# Altium integrated library TI Power Management Special Function.IntLib: 97 symbols (part 2 of 7)
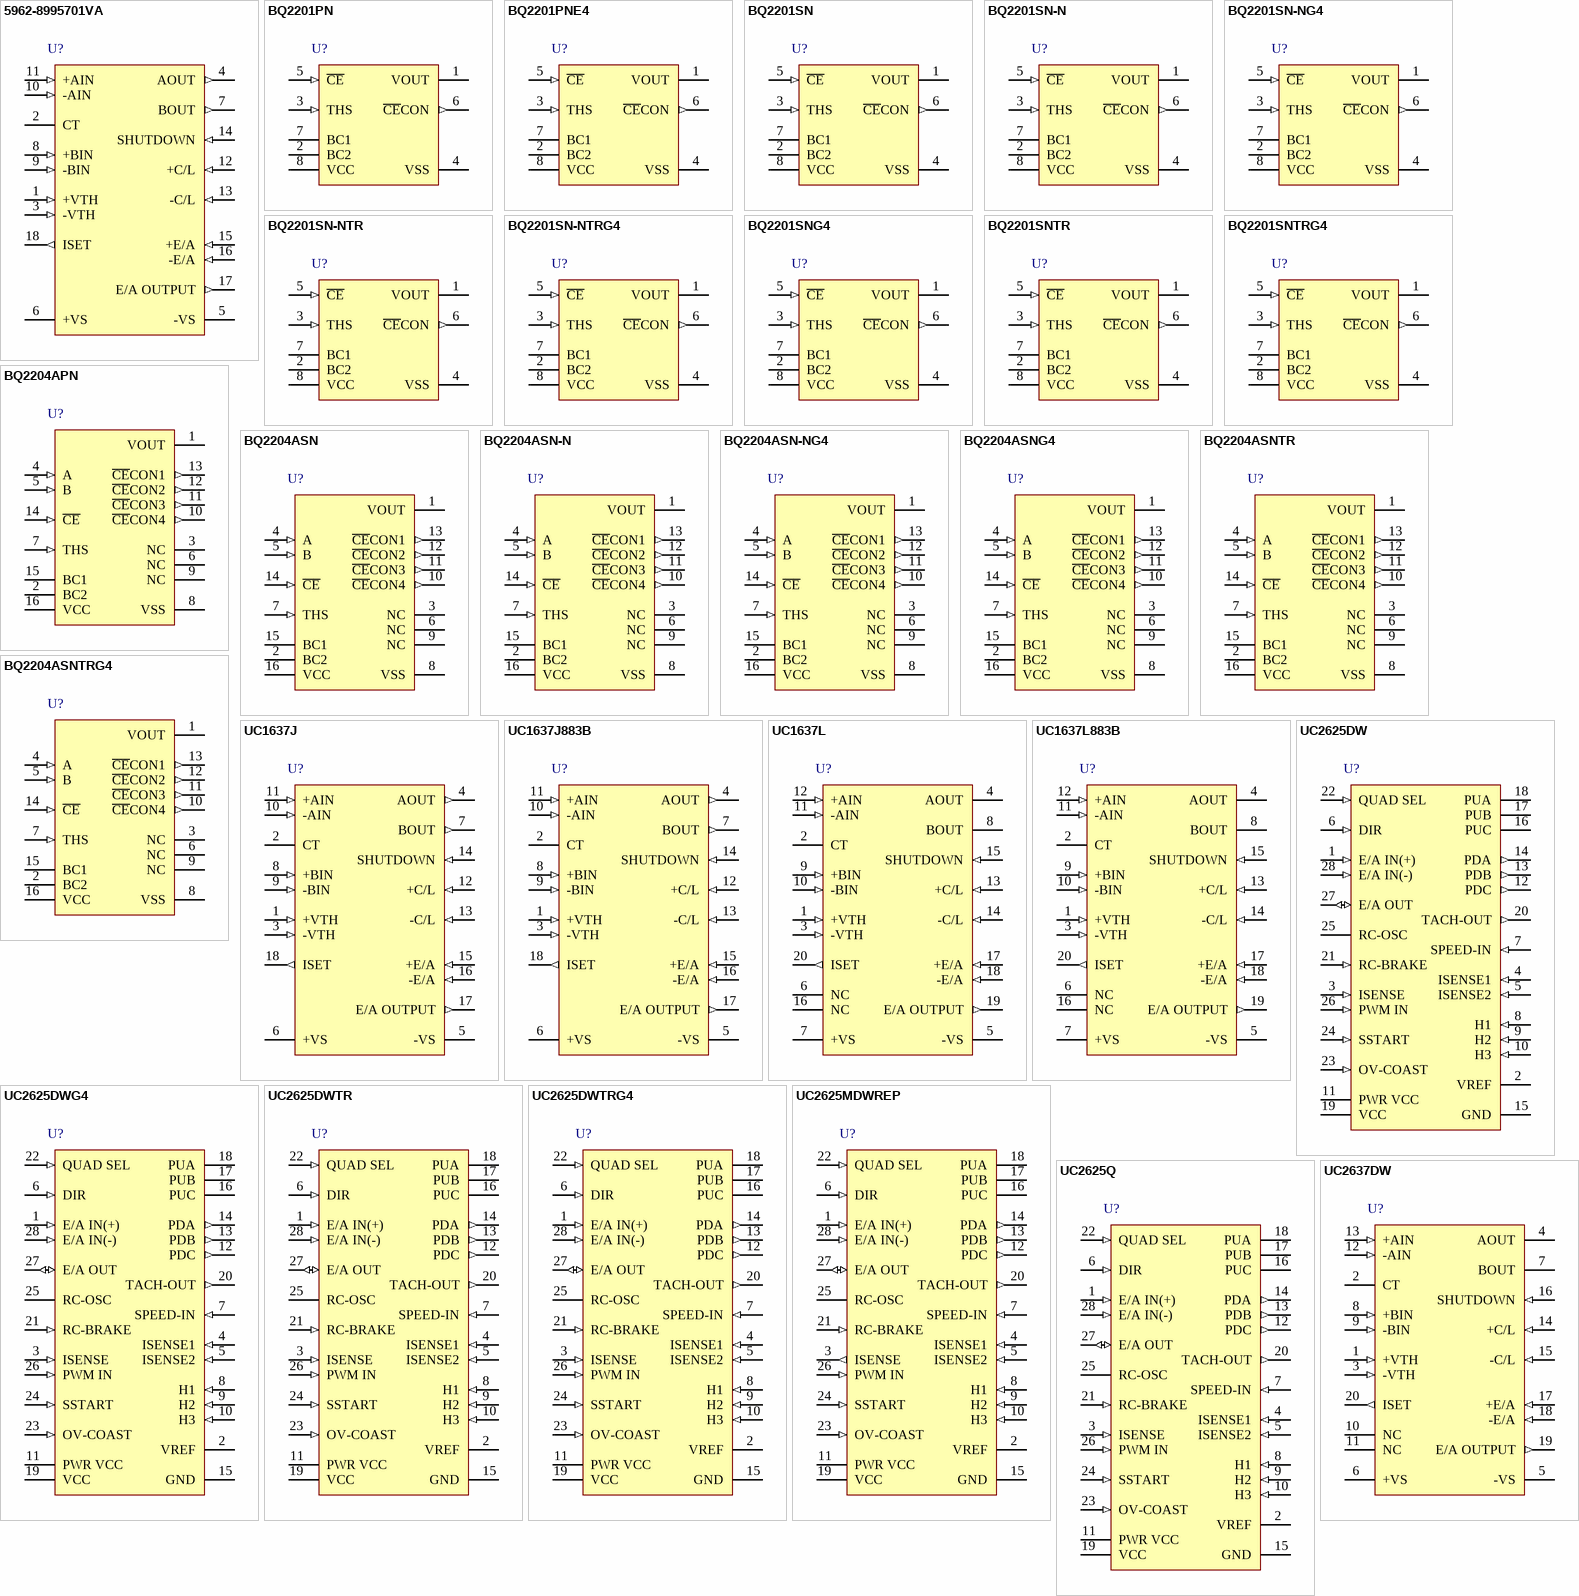
[diagram p4: symbols 5962-8995701VA to UC2637DW]

## UC2625DWTR
designator U?
Brushless DC Motor Controller, 18 V Operating Supply, -40 to 85 degC, 28-pin SOIC (DW), Green (RoHS & no Sb/Br); Manufacturer: Texas Instruments; PartNumber: UC2625DWTR; Brushless DC Motor Control: TRUE; Operating Supply Current(mA): 14.5; Operating Supply(Max)(V): 18; Operating Supply(Min)(V): 10; Peak Output Current(A): 0.5; SubFamily: Motion/Motor Control; DatasheetVersion: SLUS353B; PackageVersion: revG, Jan-2011; PackageReference: DW28; PackageDescription: 28-Pin Plastic Small Outline Integrated Circuit, 17.9 x 7.5 mm, Pitch 1.27 mm Pitch; Supplier 1: Digi-Key; Supplier Part Number 1: UC2625DWTR-ND; Supplier 2: Newark; Supplier Part Number 2: 77C2824; Supplier 3: Mouser; Supplier Part Number 3: 595-UC2625DWTR; Current-Limited: TRUE; Diff Curr Sense Amp: TRUE; Eco-Plan: Green (RoHS & no Sb/Br); Switching Control: TRUE; Tachometer: TRUE; Mounting Technology: Surface Mount; Code_JEDEC: MS-013-AE; ComponentLink1Description: Datasheet; ComponentLink1URL: http://www.ti.com/general/docs/lit/getliterature.tsp?genericPartNumber=UC2625&fileType=pdf
footprint DW28_N (SOIC, 28-Leads, Body 17.9x7.5mm, Pitch 1.27mm, IPC Medium Density)
footprint DW28_L (SOIC, 28-Leads, Body 17.9x7.5mm, Pitch 1.27mm, IPC High Density)
footprint DW28_M (SOIC, 28-Leads, Body 17.9x7.5mm, Pitch 1.27mm, IPC Low Density)
pins: 1 E/A IN(+) (in) "E/A IN(+) and E/A IN(-) are not internally committed to allow for a wide variety of uses. They can be connected to the ISENSE, to TACH-OUT through a filter, to an external command voltage, to a D/A converter for computer (See Datasheet)", 2 VREF (power) "This pin provides regulated 5 V for driving Hall-effect devices and speed control circuitry. VREF reachs 5 V before VCC enables, ensuring that Hall-effect devices powered from VREF becomes active before the UC3625 drives any (See Datasheet)", 3 ISENSE (in) "The current sense amplifier has a fixed gain of approximately two. It also has a built-in level shift of approximately 2.5 V. The signal appearing on ISENSE is: ISENSE = 2.5 V + (2 x ABS ( ISENSE1 - ISENSE2) ) ISENSE1 and (See Datasheet)", 4 ISENSE1 (in) "The current sense amplifier has a fixed gain of approximately two. It also has a built-in level shift of approximately 2.5 V. The signal appearing on ISENSE is: ISENSE = 2.5 V + (2 x ABS ( ISENSE1 - ISENSE2) ) ISENSE1 and (See Datasheet)", 5 ISENSE2 (in) "The current sense amplifier has a fixed gain of approximately two. It also has a built-in level shift of approximately 2.5 V. The signal appearing on ISENSE is: ISENSE = 2.5 V + (2 x ABS ( ISENSE1 - ISENSE2) ) ISENSE1 and (See Datasheet)", 6 DIR (in) "The position decoder logic translates the Hall signals and the DIR signal to the correct driver signals (PUs and PDs). To prevent output stage damage,the signal on DIR is first loaded into a direction latch, then shifted (See Datasheet)", 7 SPEED-IN (in) "The position decoder logic translates the Hall signals and the DIR signal to the correct driver signals (PUs and PDs). To prevent output stage damage,the signal on DIR is first loaded into a direction latch, then shifted (See Datasheet)", 8 H1 (in) "The three shaft position sensor inputs consist of hysteresis comparators with input pull-up resistors. Logic thresholds meet TTL specifications and can be driven by 5-V CMOS, 12-V CMOS, NMOS, or open-collectors. Connect (See Datasheet)", 9 H2 (in) "The three shaft position sensor inputs consist of hysteresis comparators with input pull-up resistors. Logic thresholds meet TTL specifications and can be driven by 5-V CMOS, 12-V CMOS, NMOS, or open-collectors. Connect (See Datasheet)", 10 H3 (in) "The three shaft position sensor inputs consist of hysteresis comparators with input pull-up resistors. Logic thresholds meet TTL specifications and can be driven by 5-V CMOS, 12-V CMOS, NMOS, or open-collectors. Connect (See Datasheet)", 11 PWR VCC (power) "This supply pin carries the current sourced by the PD outputs. When connecting PD outputs directly to the bases of power Darlingtons, the PWR VCC pin can be current limited with a resistor. Darlington outputs can also be (See Datasheet)", 12 PDC (out) "These outputs can drive the gates of N-channel power MOSFETs directly or they can drive the bases of power Darlingtons if some form of current limiting is used. They are meant to drive low-side power devices in high-current (See Datasheet)", 13 PDB (out) "These outputs can drive the gates of N-channel power MOSFETs directly or they can drive the bases of power Darlingtons if some form of current limiting is used. They are meant to drive low-side power devices in high-current (See Datasheet)", 14 PDA (out) "These outputs can drive the gates of N-channel power MOSFETs directly or they can drive the bases of power Darlingtons if some form of current limiting is used. They are meant to drive low-side power devices in high-current (See Datasheet)", 15 GND (power) "All thresholds and outputs are referred to the GND pin except for the PD and PU outputs.", 16 PUC (oc) "These outputs are open-collector, high-voltage drivers that are meant to drive high-side power devices in high-current output stages.These are active low outputs, meaning that these outputs pull low to command a high-side (See Datasheet)", 17 PUB (oc) "These outputs are open-collector, high-voltage drivers that are meant to drive high-side power devices in high-current output stages.These are active low outputs, meaning that these outputs pull low to command a high-side (See Datasheet)", 18 PUA (oc) "These outputs are open-collector, high-voltage drivers that are meant to drive high-side power devices in high-current output stages.These are active low outputs, meaning that these outputs pull low to command a high-side (See Datasheet)", 19 VCC (power) "This device operates with supplies between 10 V and 18 V. Under-voltage lockout keeps all outputs off below 7.5 V, insuring that the output transistors never turn on until full drive capability is available. Bypass VCC to (See Datasheet)", 20 TACH-OUT (out) "Any change in the H1, H2, or H3 inputs loads data from these inputs into the position sensor latches. At the same time data is loaded, a fixed-width 5-V pulse is triggered on TACH-OUT. The average value of the voltage on (See Datasheet)", 21 RC-BRAKE (in) "Each time the TACH-OUT pulses, the capacitor tied to RC-BRAKE discharges from approximately 3.33 V down to 1.67 V through a resistor. The tachometer pulse width is approximately T = 0.67 RT CT, where RT and CT are a resistor (See Datasheet)", 22 QUAD SEL (in) "The device can chop power devices in either of two modes, referred to as "two-quadrant" (Quad Sellow) and "four quadrant" (Quad Sel high). When two-quadrant chopping, the pull-down power devices are chopped by the output of (See Datasheet)", 23 OV-COAST (in) "This input can be used as an over-voltage shut-down input, as a coast input, or both. This input can be driven by TTL, 5-V CMOS, or 12-V CMOS.", 24 SSTART (in) "Any time that VCC drops below threshold or the sensed current exceeds the over-current threshold, the soft-start latch is set. When set, it turns on a transistor that pulls down on SSTART. Normally, a capacitor is connected (See Datasheet)", 25 RC-OSC "The UC3625 can regulate motor current using fixed-frequency pulse width modulation (PWM). The RC-OSC pin sets oscillator frequency by means of timing resistor ROSC from the RC-OSC pin to VREF and capacitor COSC from RC-OSC (See Datasheet)", 26 PWM IN (in) "E/A IN(+) and E/A IN(-) are not internally committed to allow for a wide variety of uses. They can be connected to the ISENSE, to TACH-OUT through a filter, to an external command voltage, to a D/A converter for computer (See Datasheet)", 27 E/A OUT (io) "E/A IN(+) and E/A IN(-) are not internally committed to allow for a wide variety of uses. They can be connected to the ISENSE, to TACH-OUT through a filter, to an external command voltage, to a D/A converter for computer (See Datasheet)", 28 E/A IN(-) (in) "E/A IN(+) and E/A IN(-) are not internally committed to allow for a wide variety of uses. They can be connected to the ISENSE, to TACH-OUT through a filter, to an external command voltage, to a D/A converter for computer (See Datasheet)"

## UC2625DWTRG4
designator U?
Brushless DC Motor Controller, 18 V Operating Supply, -40 to 85 degC, 28-pin SOIC (DW), Green (RoHS & no Sb/Br); Manufacturer: Texas Instruments; PartNumber: UC2625DWTRG4; Brushless DC Motor Control: TRUE; Operating Supply Current(mA): 14.5; Operating Supply(Max)(V): 18; Operating Supply(Min)(V): 10; Peak Output Current(A): 0.5; SubFamily: Motion/Motor Control; DatasheetVersion: SLUS353B; PackageVersion: revG, Jan-2011; PackageReference: DW28; PackageDescription: 28-Pin Plastic Small Outline Integrated Circuit, 17.9 x 7.5 mm, Pitch 1.27 mm Pitch; Supplier 1: Digi-Key; Supplier Part Number 1: UC2625DWTRG4-ND; Supplier 2: Newark; Supplier Part Number 2: 54K2252; Supplier 3: Mouser; Supplier Part Number 3: 595-UC2625DWTRG4; Current-Limited: TRUE; Diff Curr Sense Amp: TRUE; Eco-Plan: Green (RoHS & no Sb/Br); Switching Control: TRUE; Tachometer: TRUE; Mounting Technology: Surface Mount; Code_JEDEC: MS-013-AE; ComponentLink1Description: Datasheet; ComponentLink1URL: http://www.ti.com/general/docs/lit/getliterature.tsp?genericPartNumber=UC2625&fileType=pdf
footprint DW28_N (SOIC, 28-Leads, Body 17.9x7.5mm, Pitch 1.27mm, IPC Medium Density)
footprint DW28_L (SOIC, 28-Leads, Body 17.9x7.5mm, Pitch 1.27mm, IPC High Density)
footprint DW28_M (SOIC, 28-Leads, Body 17.9x7.5mm, Pitch 1.27mm, IPC Low Density)
pins: 1 E/A IN(+) (in) "E/A IN(+) and E/A IN(-) are not internally committed to allow for a wide variety of uses. They can be connected to the ISENSE, to TACH-OUT through a filter, to an external command voltage, to a D/A converter for computer (See Datasheet)", 2 VREF (power) "This pin provides regulated 5 V for driving Hall-effect devices and speed control circuitry. VREF reachs 5 V before VCC enables, ensuring that Hall-effect devices powered from VREF becomes active before the UC3625 drives any (See Datasheet)", 3 ISENSE (in) "The current sense amplifier has a fixed gain of approximately two. It also has a built-in level shift of approximately 2.5 V. The signal appearing on ISENSE is: ISENSE = 2.5 V + (2 x ABS ( ISENSE1 - ISENSE2) ) ISENSE1 and (See Datasheet)", 4 ISENSE1 (in) "The current sense amplifier has a fixed gain of approximately two. It also has a built-in level shift of approximately 2.5 V. The signal appearing on ISENSE is: ISENSE = 2.5 V + (2 x ABS ( ISENSE1 - ISENSE2) ) ISENSE1 and (See Datasheet)", 5 ISENSE2 (in) "The current sense amplifier has a fixed gain of approximately two. It also has a built-in level shift of approximately 2.5 V. The signal appearing on ISENSE is: ISENSE = 2.5 V + (2 x ABS ( ISENSE1 - ISENSE2) ) ISENSE1 and (See Datasheet)", 6 DIR (in) "The position decoder logic translates the Hall signals and the DIR signal to the correct driver signals (PUs and PDs). To prevent output stage damage,the signal on DIR is first loaded into a direction latch, then shifted (See Datasheet)", 7 SPEED-IN (in) "The position decoder logic translates the Hall signals and the DIR signal to the correct driver signals (PUs and PDs). To prevent output stage damage,the signal on DIR is first loaded into a direction latch, then shifted (See Datasheet)", 8 H1 (in) "The three shaft position sensor inputs consist of hysteresis comparators with input pull-up resistors. Logic thresholds meet TTL specifications and can be driven by 5-V CMOS, 12-V CMOS, NMOS, or open-collectors. Connect (See Datasheet)", 9 H2 (in) "The three shaft position sensor inputs consist of hysteresis comparators with input pull-up resistors. Logic thresholds meet TTL specifications and can be driven by 5-V CMOS, 12-V CMOS, NMOS, or open-collectors. Connect (See Datasheet)", 10 H3 (in) "The three shaft position sensor inputs consist of hysteresis comparators with input pull-up resistors. Logic thresholds meet TTL specifications and can be driven by 5-V CMOS, 12-V CMOS, NMOS, or open-collectors. Connect (See Datasheet)", 11 PWR VCC (power) "This supply pin carries the current sourced by the PD outputs. When connecting PD outputs directly to the bases of power Darlingtons, the PWR VCC pin can be current limited with a resistor. Darlington outputs can also be (See Datasheet)", 12 PDC (out) "These outputs can drive the gates of N-channel power MOSFETs directly or they can drive the bases of power Darlingtons if some form of current limiting is used. They are meant to drive low-side power devices in high-current (See Datasheet)", 13 PDB (out) "These outputs can drive the gates of N-channel power MOSFETs directly or they can drive the bases of power Darlingtons if some form of current limiting is used. They are meant to drive low-side power devices in high-current (See Datasheet)", 14 PDA (out) "These outputs can drive the gates of N-channel power MOSFETs directly or they can drive the bases of power Darlingtons if some form of current limiting is used. They are meant to drive low-side power devices in high-current (See Datasheet)", 15 GND (power) "All thresholds and outputs are referred to the GND pin except for the PD and PU outputs.", 16 PUC (oc) "These outputs are open-collector, high-voltage drivers that are meant to drive high-side power devices in high-current output stages.These are active low outputs, meaning that these outputs pull low to command a high-side (See Datasheet)", 17 PUB (oc) "These outputs are open-collector, high-voltage drivers that are meant to drive high-side power devices in high-current output stages.These are active low outputs, meaning that these outputs pull low to command a high-side (See Datasheet)", 18 PUA (oc) "These outputs are open-collector, high-voltage drivers that are meant to drive high-side power devices in high-current output stages.These are active low outputs, meaning that these outputs pull low to command a high-side (See Datasheet)", 19 VCC (power) "This device operates with supplies between 10 V and 18 V. Under-voltage lockout keeps all outputs off below 7.5 V, insuring that the output transistors never turn on until full drive capability is available. Bypass VCC to (See Datasheet)", 20 TACH-OUT (out) "Any change in the H1, H2, or H3 inputs loads data from these inputs into the position sensor latches. At the same time data is loaded, a fixed-width 5-V pulse is triggered on TACH-OUT. The average value of the voltage on (See Datasheet)", 21 RC-BRAKE (in) "Each time the TACH-OUT pulses, the capacitor tied to RC-BRAKE discharges from approximately 3.33 V down to 1.67 V through a resistor. The tachometer pulse width is approximately T = 0.67 RT CT, where RT and CT are a resistor (See Datasheet)", 22 QUAD SEL (in) "The device can chop power devices in either of two modes, referred to as "two-quadrant" (Quad Sellow) and "four quadrant" (Quad Sel high). When two-quadrant chopping, the pull-down power devices are chopped by the output of (See Datasheet)", 23 OV-COAST (in) "This input can be used as an over-voltage shut-down input, as a coast input, or both. This input can be driven by TTL, 5-V CMOS, or 12-V CMOS.", 24 SSTART (in) "Any time that VCC drops below threshold or the sensed current exceeds the over-current threshold, the soft-start latch is set. When set, it turns on a transistor that pulls down on SSTART. Normally, a capacitor is connected (See Datasheet)", 25 RC-OSC "The UC3625 can regulate motor current using fixed-frequency pulse width modulation (PWM). The RC-OSC pin sets oscillator frequency by means of timing resistor ROSC from the RC-OSC pin to VREF and capacitor COSC from RC-OSC (See Datasheet)", 26 PWM IN (in) "E/A IN(+) and E/A IN(-) are not internally committed to allow for a wide variety of uses. They can be connected to the ISENSE, to TACH-OUT through a filter, to an external command voltage, to a D/A converter for computer (See Datasheet)", 27 E/A OUT (io) "E/A IN(+) and E/A IN(-) are not internally committed to allow for a wide variety of uses. They can be connected to the ISENSE, to TACH-OUT through a filter, to an external command voltage, to a D/A converter for computer (See Datasheet)", 28 E/A IN(-) (in) "E/A IN(+) and E/A IN(-) are not internally committed to allow for a wide variety of uses. They can be connected to the ISENSE, to TACH-OUT through a filter, to an external command voltage, to a D/A converter for computer (See Datasheet)"

## UC2625MDWREP
designator U?
Enhanced Product Brushless DC Motor Controller, -55 to 125 degC, 28-pin SOIC (DW), Green (RoHS & no Sb/Br); Manufacturer: Texas Instruments; PartNumber: UC2625MDWREP; SubFamily: Motion/Motor Control; DatasheetVersion: SLUS802; PackageVersion: revG, Jan-2011; PackageReference: DW28; PackageDescription: 28-Pin Plastic Small Outline Integrated Circuit, 17.9 x 7.5 mm, Pitch 1.27 mm Pitch; Supplier 1: Digi-Key; Supplier Part Number 1: 296-23381-2-ND; Supplier 2: Digi-Key; Supplier Part Number 2: 296-23381-1-ND; Supplier 3: Digi-Key; Supplier Part Number 3: 296-23381-6-ND; Supplier 4: Newark; Supplier Part Number 4: 79R8633; Supplier 5: Mouser; Supplier Part Number 5: 595-UC2625MDWREP; Eco-Plan: Green (RoHS & no Sb/Br); Mounting Technology: Surface Mount; Code_JEDEC: MS-013-AE; ComponentLink1Description: Datasheet; ComponentLink1URL: http://www.ti.com/general/docs/lit/getliterature.tsp?genericPartNumber=UC2625-EP&fileType=pdf
footprint DW28_N (SOIC, 28-Leads, Body 17.9x7.5mm, Pitch 1.27mm, IPC Medium Density)
footprint DW28_L (SOIC, 28-Leads, Body 17.9x7.5mm, Pitch 1.27mm, IPC High Density)
footprint DW28_M (SOIC, 28-Leads, Body 17.9x7.5mm, Pitch 1.27mm, IPC Low Density)
pins: 1 E/A IN(+) (in) "E/A IN(+) and E/A IN(-) are not internally committed to allow for a wide variety of uses. They can be connected to the ISENSE, to TACH-OUT through a filter, to an external command voltage, to a D/A converter for computer (See Datasheet)", 2 VREF (power) "This pin provides regulated 5 V for driving Hall-effect devices and speed control circuitry. VREF reachs 5 V before VCC enables, ensuring that Hall-effect devices  powered from VREF becomes active before the UC3625 drives (See Datasheet)", 3 ISENSE (out) "The current sense amplifier has a fixed gain of approximately two. It also has a built-in level shift of approximately 2.5 V. The signal appearing on ISENSE is: ISENSE = 2.5 V + (2 x ABS ( ISENSE1 - ISENSE2) ) ISENSE1 and (See Datasheet)", 4 ISENSE1 (in) "The current sense amplifier has a fixed gain of approximately two. It also has a built-in level shift of approximately 2.5 V. The signal appearing on ISENSE is: ISENSE = 2.5 V + (2 x ABS ( ISENSE1 - ISENSE2) ) ISENSE1 and (See Datasheet)", 5 ISENSE2 (in) "The current sense amplifier has a fixed gain of approximately two. It also has a built-in level shift of approximately 2.5 V. The signal appearing on ISENSE is: ISENSE = 2.5 V + (2 x ABS ( ISENSE1 - ISENSE2) ) ISENSE1 and (See Datasheet)", 6 DIR (in) "The position decoder logic translates the Hall signals and the DIR signal to the correct driver signals (PUs and PDs). To prevent output stage damage,the signal on DIR is first loaded into a direction latch, then shifted (See Datasheet)", 7 SPEED-IN (in) "The position decoder logic translates the Hall signals and the DIR signal to the correct driver signals (PUs and PDs). To prevent output stage damage,the signal on DIR is first loaded into a direction latch, then shifted (See Datasheet)", 8 H1 (in) "The three shaft position sensor inputs consist of hysteresis comparators with input pull-up resistors. Logic thresholds meet TTL specifications and can be driven by 5-V CMOS, 12-V CMOS, NMOS, or open-collectors. Connect (See Datasheet)", 9 H2 (in) "The three shaft position sensor inputs consist of hysteresis comparators with input pull-up resistors. Logic thresholds meet TTL specifications and can be driven by 5-V CMOS, 12-V CMOS, NMOS, or open-collectors. Connect (See Datasheet)", 10 H3 (in) "The three shaft position sensor inputs consist of hysteresis comparators with input pull-up resistors. Logic thresholds meet TTL specifications and can be driven by 5-V CMOS, 12-V CMOS, NMOS, or open-collectors. Connect (See Datasheet)", 11 PWR VCC (power) "This supply pin carries the current sourced by the PD outputs. When connecting PD outputs directly to the bases of power Darlingtons, the PWR VCC pin can be current limited with a resistor. Darlington outputs can also be (See Datasheet)", 12 PDC (out) "These outputs can drive the gates of N-channel power MOSFETs directly or they can drive the bases of power Darlingtons if some form of current limiting is used. They are meant to drive low-side power devices in high-current (See Datasheet)", 13 PDB (out) "These outputs can drive the gates of N-channel power MOSFETs directly or they can drive the bases of power Darlingtons if some form of current limiting is used. They are meant to drive low-side power devices in high-current (See Datasheet)", 14 PDA (out) "These outputs can drive the gates of N-channel power MOSFETs directly or they can drive the bases of power Darlingtons if some form of current limiting is used. They are meant to drive low-side power devices in high-current (See Datasheet)", 15 GND (power) "All thresholds and outputs are referred to the GND pin except for the PD and PU outputs.", 16 PUC (oc) "These outputs are open-collector, high-voltage drivers that are meant to drive high-side power devices in high-current output stages.These are active low outputs, meaning that these outputs pull low to command a high-side (See Datasheet)", 17 PUB (oc) "These outputs are open-collector, high-voltage drivers that are meant to drive high-side power devices in high-current output stages.These are active low outputs, meaning that these outputs pull low to command a high-side (See Datasheet)", 18 PUA (oc) "These outputs are open-collector, high-voltage drivers that are meant to drive high-side power devices in high-current output stages.These are active low outputs, meaning that these outputs pull low to command a high-side (See Datasheet)", 19 VCC (power) "This device operates with supplies between 10 V and 18 V. Under-voltage lockout keeps all outputs off below 7.5 V, insuring that the output transistors never turn on until full drive capability is available. Bypass VCC to (See Datasheet)", 20 TACH-OUT (out) "Any change in the H1, H2, or H3 inputs loads data from these inputs into the position sensor latches. At the same time data is loaded, a fixed-width 5-V pulse is triggered on TACH-OUT. The average value of the voltage on (See Datasheet)", 21 RC-BRAKE (in) "Each time the TACH-OUT pulses, the capacitor tied to RC-BRAKE discharges from approximately 3.33 V down to 1.67 V through a resistor. The tachometer pulse width is approximately T = 0.67 RT CT, where RT and CT are a resistor (See Datasheet)", 22 QUAD SEL (in) "The device can chop power devices in either of two modes, referred to as "two-quadrant" (Quad Sellow) and "four quadrant" (Quad Sel high). When two-quadrant chopping, the pull-down power devices are chopped by the output of (See Datasheet)", 23 OV-COAST (in) "This input can be used as an over-voltage shut-down input, as a coast input, or both. This input can be driven by TTL, 5-V CMOS, or 12-V CMOS.", 24 SSTART (in) "Any time that VCC drops below threshold or the sensed current exceeds the over-current threshold, the soft-start latch is set. When set, it turns on a transistor that pulls down on SSTART. Normally, a capacitor is connected (See Datasheet)", 25 RC-OSC "The UC3625 can regulate motor current using fixed-frequency pulse width modulation (PWM). The RC-OSC pin sets oscillator frequency by means of timing resistor ROSC from the RC-OSC pin to VREF and capacitor COSC from RC-OSC (See Datasheet)", 26 PWM IN (in) "E/A IN(+) and E/A IN(-) are not internally committed to allow for a wide variety of uses. They can be connected to the ISENSE, to TACH-OUT through a filter, to an external command voltage, to a D/A converter for computer (See Datasheet)", 27 E/A OUT (io) "E/A IN(+) and E/A IN(-) are not internally committed to allow for a wide variety of uses. They can be connected to the ISENSE, to TACH-OUT through a filter, to an external command voltage, to a D/A converter for computer (See Datasheet)", 28 E/A IN(-) (in) "E/A IN(+) and E/A IN(-) are not internally committed to allow for a wide variety of uses. They can be connected to the ISENSE, to TACH-OUT through a filter, to an external command voltage, to a D/A converter for computer (See Datasheet)"

## UC2625Q
designator U?
Brushless DC Motor Controller, 18 V Operating Supply, -40 to 85 degC, 28-pin PLCC (FN), Green (RoHS & no Sb/Br); Manufacturer: Texas Instruments; PartNumber: UC2625Q; Brushless DC Motor Control: TRUE; Operating Supply Current(mA): 14.5; Operating Supply(Max)(V): 18; Operating Supply(Min)(V): 10; Peak Output Current(A): 0.5; SubFamily: Motion/Motor Control; DatasheetVersion: SLUS353B; PackageVersion: revB, Mar-1995; PackageReference: FN28; PackageDescription: 28-Pin Plastic J-Leaded Chip Carrier, 1.27 mm Pitch; Supplier 1: Digi-Key; Supplier Part Number 1: UC2625Q-ND; Supplier 2: Newark; Supplier Part Number 2: 01C2080; Supplier 3: Mouser; Supplier Part Number 3: 595-UC2625Q; Current-Limited: TRUE; Diff Curr Sense Amp: TRUE; Eco-Plan: Green (RoHS & no Sb/Br); Switching Control: TRUE; Tachometer: TRUE; Mounting Technology: Surface Mount; Code_JEDEC: MS-018; ComponentLink1Description: Datasheet; ComponentLink1URL: http://www.ti.com/general/docs/lit/getliterature.tsp?genericPartNumber=UC2625&fileType=pdf
footprint FN28_N (Leaded Chip Carrier, 28-Leads, Body 11.5x11.5mm, Pitch 1.27mm, IPC Medium Density)
footprint FN28_L (Leaded Chip Carrier, 28-Leads, Body 11.5x11.5mm, Pitch 1.27mm, IPC High Density)
footprint FN28_M (Leaded Chip Carrier, 28-Leads, Body 11.5x11.5mm, Pitch 1.27mm, IPC Low Density)
pins: 1 E/A IN(+) (in) "E/A IN(+) and E/A IN(-) are not internally committed to allow for a wide variety of uses. They can be connected to the ISENSE, to TACH-OUT through a filter, to an external command voltage, to a D/A converter for computer (See Datasheet)", 2 VREF (power) "This pin provides regulated 5 V for driving Hall-effect devices and speed control circuitry. VREF reachs 5 V before VCC enables, ensuring that Hall-effect devices powered from VREF becomes active before the UC3625 drives any (See Datasheet)", 3 ISENSE (in) "The current sense amplifier has a fixed gain of approximately two. It also has a built-in level shift of approximately 2.5 V. The signal appearing on ISENSE is: ISENSE = 2.5 V + (2 x ABS ( ISENSE1 - ISENSE2) ) ISENSE1 and (See Datasheet)", 4 ISENSE1 (in) "The current sense amplifier has a fixed gain of approximately two. It also has a built-in level shift of approximately 2.5 V. The signal appearing on ISENSE is: ISENSE = 2.5 V + (2 x ABS ( ISENSE1 - ISENSE2) ) ISENSE1 and (See Datasheet)", 5 ISENSE2 (in) "The current sense amplifier has a fixed gain of approximately two. It also has a built-in level shift of approximately 2.5 V. The signal appearing on ISENSE is: ISENSE = 2.5 V + (2 x ABS ( ISENSE1 - ISENSE2) ) ISENSE1 and (See Datasheet)", 6 DIR (in) "The position decoder logic translates the Hall signals and the DIR signal to the correct driver signals (PUs and PDs). To prevent output stage damage,the signal on DIR is first loaded into a direction latch, then shifted (See Datasheet)", 7 SPEED-IN (in) "The position decoder logic translates the Hall signals and the DIR signal to the correct driver signals (PUs and PDs). To prevent output stage damage,the signal on DIR is first loaded into a direction latch, then shifted (See Datasheet)", 8 H1 (in) "The three shaft position sensor inputs consist of hysteresis comparators with input pull-up resistors. Logic thresholds meet TTL specifications and can be driven by 5-V CMOS, 12-V CMOS, NMOS, or open-collectors. Connect (See Datasheet)", 9 H2 (in) "The three shaft position sensor inputs consist of hysteresis comparators with input pull-up resistors. Logic thresholds meet TTL specifications and can be driven by 5-V CMOS, 12-V CMOS, NMOS, or open-collectors. Connect (See Datasheet)", 10 H3 (in) "The three shaft position sensor inputs consist of hysteresis comparators with input pull-up resistors. Logic thresholds meet TTL specifications and can be driven by 5-V CMOS, 12-V CMOS, NMOS, or open-collectors. Connect (See Datasheet)", 11 PWR VCC (power) "This supply pin carries the current sourced by the PD outputs. When connecting PD outputs directly to the bases of power Darlingtons, the PWR VCC pin can be current limited with a resistor. Darlington outputs can also be (See Datasheet)", 12 PDC (out) "These outputs can drive the gates of N-channel power MOSFETs directly or they can drive the bases of power Darlingtons if some form of current limiting is used. They are meant to drive low-side power devices in high-current (See Datasheet)", 13 PDB (out) "These outputs can drive the gates of N-channel power MOSFETs directly or they can drive the bases of power Darlingtons if some form of current limiting is used. They are meant to drive low-side power devices in high-current (See Datasheet)", 14 PDA (out) "These outputs can drive the gates of N-channel power MOSFETs directly or they can drive the bases of power Darlingtons if some form of current limiting is used. They are meant to drive low-side power devices in high-current (See Datasheet)", 15 GND (power) "All thresholds and outputs are referred to the GND pin except for the PD and PU outputs.", 16 PUC (oc) "These outputs are open-collector, high-voltage drivers that are meant to drive high-side power devices in high-current output stages.These are active low outputs, meaning that these outputs pull low to command a high-side (See Datasheet)", 17 PUB (oc) "These outputs are open-collector, high-voltage drivers that are meant to drive high-side power devices in high-current output stages.These are active low outputs, meaning that these outputs pull low to command a high-side (See Datasheet)", 18 PUA (oc) "These outputs are open-collector, high-voltage drivers that are meant to drive high-side power devices in high-current output stages.These are active low outputs, meaning that these outputs pull low to command a high-side (See Datasheet)", 19 VCC (power) "This device operates with supplies between 10 V and 18 V. Under-voltage lockout keeps all outputs off below 7.5 V, insuring that the output transistors never turn on until full drive capability is available. Bypass VCC to (See Datasheet)", 20 TACH-OUT (out) "Any change in the H1, H2, or H3 inputs loads data from these inputs into the position sensor latches. At the same time data is loaded, a fixed-width 5-V pulse is triggered on TACH-OUT. The average value of the voltage on (See Datasheet)", 21 RC-BRAKE (in) "Each time the TACH-OUT pulses, the capacitor tied to RC-BRAKE discharges from approximately 3.33 V down to 1.67 V through a resistor. The tachometer pulse width is approximately T = 0.67 RT CT, where RT and CT are a resistor (See Datasheet)", 22 QUAD SEL (in) "The device can chop power devices in either of two modes, referred to as "two-quadrant" (Quad Sellow) and "four quadrant" (Quad Sel high). When two-quadrant chopping, the pull-down power devices are chopped by the output of (See Datasheet)", 23 OV-COAST (in) "This input can be used as an over-voltage shut-down input, as a coast input, or both. This input can be driven by TTL, 5-V CMOS, or 12-V CMOS.", 24 SSTART (in) "Any time that VCC drops below threshold or the sensed current exceeds the over-current threshold, the soft-start latch is set. When set, it turns on a transistor that pulls down on SSTART. Normally, a capacitor is connected (See Datasheet)", 25 RC-OSC "The UC3625 can regulate motor current using fixed-frequency pulse width modulation (PWM). The RC-OSC pin sets oscillator frequency by means of timing resistor ROSC from the RC-OSC pin to VREF and capacitor COSC from RC-OSC (See Datasheet)", 26 PWM IN (in) "E/A IN(+) and E/A IN(-) are not internally committed to allow for a wide variety of uses. They can be connected to the ISENSE, to TACH-OUT through a filter, to an external command voltage, to a D/A converter for computer (See Datasheet)", 27 E/A OUT (io) "E/A IN(+) and E/A IN(-) are not internally committed to allow for a wide variety of uses. They can be connected to the ISENSE, to TACH-OUT through a filter, to an external command voltage, to a D/A converter for computer (See Datasheet)", 28 E/A IN(-) (in) "E/A IN(+) and E/A IN(-) are not internally committed to allow for a wide variety of uses. They can be connected to the ISENSE, to TACH-OUT through a filter, to an external command voltage, to a D/A converter for computer (See Datasheet)"

## UC2637DW
designator U?
Switched Mode Controller for DC Motor Drive, 36 V Operating Supply, -25 to 85 degC, 20-pin SOIC (DW), Green (RoHS & no Sb/Br); Manufacturer: Texas Instruments; PartNumber: UC2637DW; Current-Limited: TRUE; Operating Supply Current(mA): 8.5; Operating Supply(Max)(V): 36; Operating Supply(Min)(V): 5; Peak Output Current(A): 0.4; SubFamily: Motion/Motor Control; DatasheetVersion: SLUS283; PackageVersion: revG, Jan-2011; PackageReference: DW20; PackageDescription: 20-Pin Plastic Small Outline Integrated Circuit, 12.8 x 7.5 mm, Pitch 1.27 mm Pitch; Supplier 1: Digi-Key; Supplier Part Number 1: 296-2481-5-ND; Supplier 2: Newark; Supplier Part Number 2: 77C2827; Supplier 3: Mouser; Supplier Part Number 3: 595-UC2637DW; DC Motor Control: TRUE; Eco-Plan: Green (RoHS & no Sb/Br); Switching Control: TRUE; Mounting Technology: Surface Mount; Code_JEDEC: MS-013-AC; ComponentLink1Description: Datasheet; ComponentLink1URL: http://www.ti.com/general/docs/lit/getliterature.tsp?genericPartNumber=UC2637&fileType=pdf
footprint DW20_N (SOIC, 20-Leads, Body 12.8x7.5mm, Pitch 1.27mm, IPC Medium Density)
footprint DW20_L (SOIC, 20-Leads, Body 12.8x7.5mm, Pitch 1.27mm, IPC High Density)
footprint DW20_M (SOIC, 20-Leads, Body 12.8x7.5mm, Pitch 1.27mm, IPC Low Density)
pins: 1 +VTH (in), 2 CT, 3 -VTH (in), 4 AOUT (power), 5 -VS (power), 6 +VS (power), 7 BOUT (power), 8 +BIN (in), 9 -BIN (in), 10 NC, 11 NC, 12 -AIN (in), 13 +AIN (in), 14 +C/L (in), 15 -C/L (in), 16 SHUTDOWN (in), 17 +E/A (in), 18 -E/A (in), 19 E/A OUTPUT (out), 20 ISET (out)

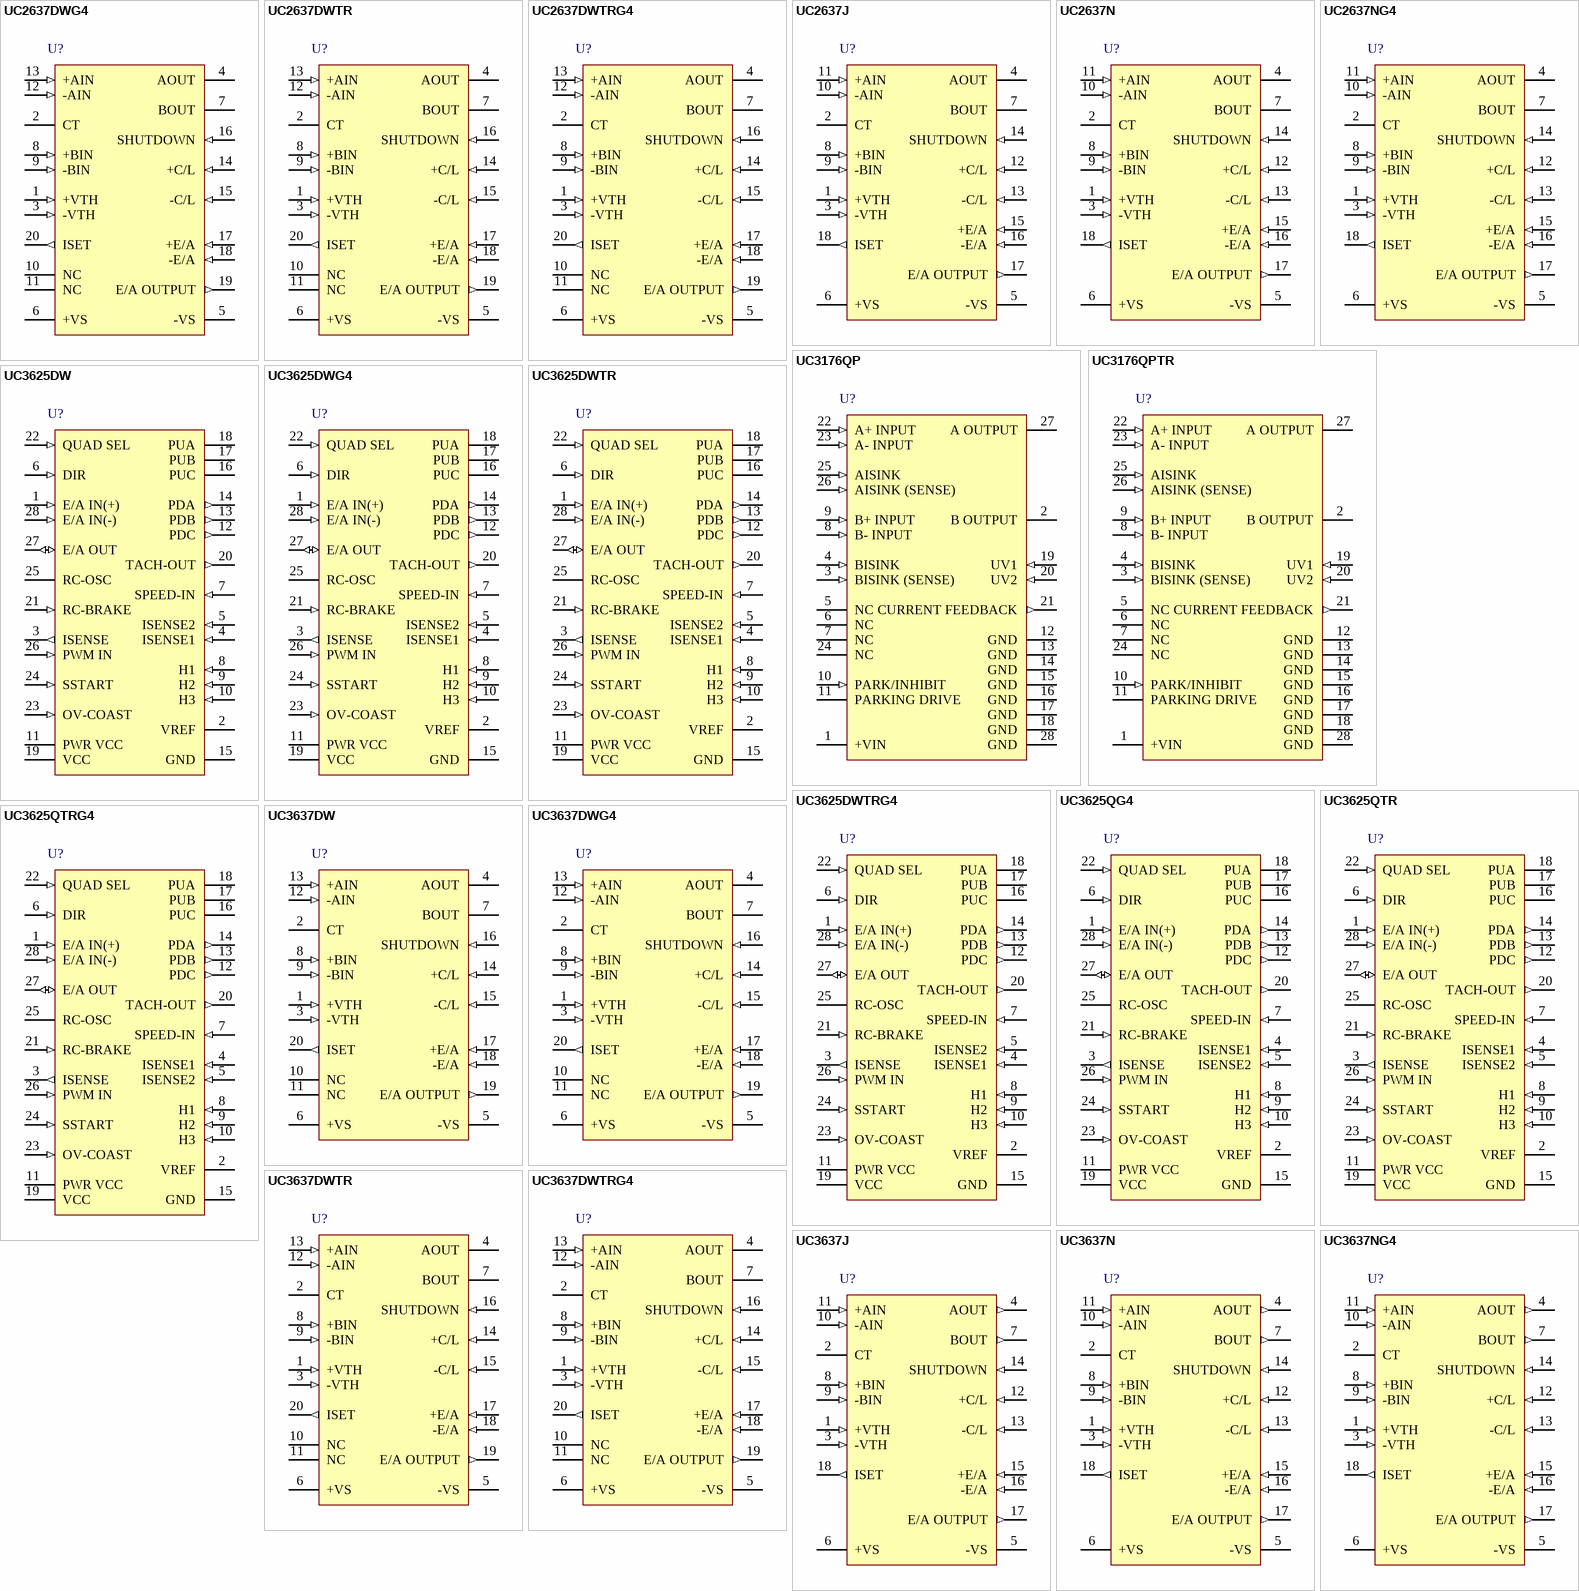
[diagram p1: symbols UC2637DWG4 to UC3637NG4]

## UC2637DWG4
designator U?
Switched Mode Controller for DC Motor Drive, 36 V Operating Supply, -25 to 85 degC, 20-pin SOIC (DW), Green (RoHS & no Sb/Br); Manufacturer: Texas Instruments; PartNumber: UC2637DWG4; Current-Limited: TRUE; Operating Supply Current(mA): 8.5; Operating Supply(Max)(V): 36; Operating Supply(Min)(V): 5; Peak Output Current(A): 0.4; SubFamily: Motion/Motor Control; DatasheetVersion: SLUS283; PackageVersion: revG, Jan-2011; PackageReference: DW20; PackageDescription: 20-Pin Plastic Small Outline Integrated Circuit, 12.8 x 7.5 mm, Pitch 1.27 mm Pitch; Supplier 1: Digi-Key; Supplier Part Number 1: UC2637DWG4-ND; Supplier 2: Newark; Supplier Part Number 2: 61K1983; Supplier 3: Mouser; Supplier Part Number 3: 595-UC2637DWG4; DC Motor Control: TRUE; Eco-Plan: Green (RoHS & no Sb/Br); Switching Control: TRUE; Mounting Technology: Surface Mount; Code_JEDEC: MS-013-AC; ComponentLink1Description: Datasheet; ComponentLink1URL: http://www.ti.com/general/docs/lit/getliterature.tsp?genericPartNumber=UC2637&fileType=pdf
footprint DW20_N (SOIC, 20-Leads, Body 12.8x7.5mm, Pitch 1.27mm, IPC Medium Density)
footprint DW20_L (SOIC, 20-Leads, Body 12.8x7.5mm, Pitch 1.27mm, IPC High Density)
footprint DW20_M (SOIC, 20-Leads, Body 12.8x7.5mm, Pitch 1.27mm, IPC Low Density)
pins: 1 +VTH (in), 2 CT, 3 -VTH (in), 4 AOUT (power), 5 -VS (power), 6 +VS (power), 7 BOUT (power), 8 +BIN (in), 9 -BIN (in), 10 NC, 11 NC, 12 -AIN (in), 13 +AIN (in), 14 +C/L (in), 15 -C/L (in), 16 SHUTDOWN (in), 17 +E/A (in), 18 -E/A (in), 19 E/A OUTPUT (out), 20 ISET (out)

## UC2637DWTR
designator U?
Switched Mode Controller for DC Motor Drive, 36 V Operating Supply, -25 to 85 degC, 20-pin SOIC (DW), Green (RoHS & no Sb/Br); Manufacturer: Texas Instruments; PartNumber: UC2637DWTR; Current-Limited: TRUE; Operating Supply Current(mA): 8.5; Operating Supply(Max)(V): 36; Operating Supply(Min)(V): 5; Peak Output Current(A): 0.4; SubFamily: Motion/Motor Control; DatasheetVersion: SLUS283; PackageVersion: revG, Jan-2011; PackageReference: DW20; PackageDescription: 20-Pin Plastic Small Outline Integrated Circuit, 12.8 x 7.5 mm, Pitch 1.27 mm Pitch; Supplier 1: Digi-Key; Supplier Part Number 1: UC2637DWTR-ND; Supplier 2: Newark; Supplier Part Number 2: 77C2828; Supplier 3: Mouser; Supplier Part Number 3: 595-UC2637DWTR; DC Motor Control: TRUE; Eco-Plan: Green (RoHS & no Sb/Br); Switching Control: TRUE; Mounting Technology: Surface Mount; Code_JEDEC: MS-013-AC; ComponentLink1Description: Datasheet; ComponentLink1URL: http://www.ti.com/general/docs/lit/getliterature.tsp?genericPartNumber=UC2637&fileType=pdf
footprint DW20_N (SOIC, 20-Leads, Body 12.8x7.5mm, Pitch 1.27mm, IPC Medium Density)
footprint DW20_L (SOIC, 20-Leads, Body 12.8x7.5mm, Pitch 1.27mm, IPC High Density)
footprint DW20_M (SOIC, 20-Leads, Body 12.8x7.5mm, Pitch 1.27mm, IPC Low Density)
pins: 1 +VTH (in), 2 CT, 3 -VTH (in), 4 AOUT (power), 5 -VS (power), 6 +VS (power), 7 BOUT (power), 8 +BIN (in), 9 -BIN (in), 10 NC, 11 NC, 12 -AIN (in), 13 +AIN (in), 14 +C/L (in), 15 -C/L (in), 16 SHUTDOWN (in), 17 +E/A (in), 18 -E/A (in), 19 E/A OUTPUT (out), 20 ISET (out)

## UC2637DWTRG4
designator U?
Switched Mode Controller for DC Motor Drive, 36 V Operating Supply, -25 to 85 degC, 20-pin SOIC (DW), Green (RoHS & no Sb/Br); Manufacturer: Texas Instruments; PartNumber: UC2637DWTRG4; Current-Limited: TRUE; Operating Supply Current(mA): 8.5; Operating Supply(Max)(V): 36; Operating Supply(Min)(V): 5; Peak Output Current(A): 0.4; SubFamily: Motion/Motor Control; DatasheetVersion: SLUS283; PackageVersion: revG, Jan-2011; PackageReference: DW20; PackageDescription: 20-Pin Plastic Small Outline Integrated Circuit, 12.8 x 7.5 mm, Pitch 1.27 mm Pitch; Supplier 1: Digi-Key; Supplier Part Number 1: UC2637DWTRG4-ND; Supplier 2: Newark; Supplier Part Number 2: 70K5950; Supplier 3: Mouser; Supplier Part Number 3: 595-UC2637DWTRG4; DC Motor Control: TRUE; Eco-Plan: Green (RoHS & no Sb/Br); Switching Control: TRUE; Mounting Technology: Surface Mount; Code_JEDEC: MS-013-AC; ComponentLink1Description: Datasheet; ComponentLink1URL: http://www.ti.com/general/docs/lit/getliterature.tsp?genericPartNumber=UC2637&fileType=pdf
footprint DW20_N (SOIC, 20-Leads, Body 12.8x7.5mm, Pitch 1.27mm, IPC Medium Density)
footprint DW20_L (SOIC, 20-Leads, Body 12.8x7.5mm, Pitch 1.27mm, IPC High Density)
footprint DW20_M (SOIC, 20-Leads, Body 12.8x7.5mm, Pitch 1.27mm, IPC Low Density)
pins: 1 +VTH (in), 2 CT, 3 -VTH (in), 4 AOUT (power), 5 -VS (power), 6 +VS (power), 7 BOUT (power), 8 +BIN (in), 9 -BIN (in), 10 NC, 11 NC, 12 -AIN (in), 13 +AIN (in), 14 +C/L (in), 15 -C/L (in), 16 SHUTDOWN (in), 17 +E/A (in), 18 -E/A (in), 19 E/A OUTPUT (out), 20 ISET (out)

## UC2637J
designator U?
Switched Mode Controller for DC Motor Drive, 36 V Operating Supply, -25 to 85 degC, 18-pin CDIP (J); Manufacturer: Texas Instruments; PartNumber: UC2637J; Current-Limited: TRUE; Eco-Plan: TBD; Operating Supply Current(mA): 8.5; Operating Supply(Max)(V): 36; Operating Supply(Min)(V): 5; Peak Output Current(A): 0.4; SubFamily: Motion/Motor Control; DatasheetVersion: SLUS283; PackageVersion: revF, Mar-2003; PackageReference: J18; PackageDescription: 18-Pin, Ceramic Dual In-Line Package, Row Spacing 7.62 mm, Pitch 2.54 mm; DC Motor Control: TRUE; Switching Control: TRUE; Mounting Technology: Through Hole; ComponentLink1Description: Datasheet; ComponentLink1URL: http://www.ti.com/general/docs/lit/getliterature.tsp?genericPartNumber=UC2637&fileType=pdf
footprint J18 (DIP, 18-Leads, Row Spacing 7.62mm, Pitch 2.54mm, Body 24.1x6.7mm)
pins: 1 +VTH (in), 2 CT, 3 -VTH (in), 4 AOUT (power), 5 -VS (power), 6 +VS (power), 7 BOUT (power), 8 +BIN (in), 9 -BIN (in), 10 -AIN (in), 11 +AIN (in), 12 +C/L (in), 13 -C/L (in), 14 SHUTDOWN (in), 15 +E/A (in), 16 -E/A (in), 17 E/A OUTPUT (out), 18 ISET (out)

## UC2637N
designator U?
Switched Mode Controller for DC Motor Drive, 36 V Operating Supply, -25 to 85 degC, 18-pin PDIP (N), Green (RoHS & no Sb/Br); Manufacturer: Texas Instruments; PartNumber: UC2637N; Current-Limited: TRUE; Operating Supply Current(mA): 8.5; Operating Supply(Max)(V): 36; Operating Supply(Min)(V): 5; Peak Output Current(A): 0.4; SubFamily: Motion/Motor Control; DatasheetVersion: SLUS283; PackageVersion: revE, Dec-2002; PackageReference: N18; PackageDescription: 18-Pin Plastic Dual-In-Line Package, Row Spacing 7.62 mm, Pitch 2.54 mm; Supplier 1: Digi-Key; Supplier Part Number 1: 296-11163-5-ND; Supplier 2: Newark; Supplier Part Number 2: 77C2829; Supplier 3: Mouser; Supplier Part Number 3: 595-UC2637N; DC Motor Control: TRUE; Eco-Plan: Green (RoHS & no Sb/Br); Switching Control: TRUE; Mounting Technology: Through Hole; Code_JEDEC: MS-001-AC*; ComponentLink1Description: Datasheet; ComponentLink1URL: http://www.ti.com/general/docs/lit/getliterature.tsp?genericPartNumber=UC2637&fileType=pdf
footprint N18 (DIP, 18-Leads, Row Spacing 7.62mm, Pitch 2.54mm, Body 22.5x6.4mm)
pins: 1 +VTH (in), 2 CT, 3 -VTH (in), 4 AOUT (power), 5 -VS (power), 6 +VS (power), 7 BOUT (power), 8 +BIN (in), 9 -BIN (in), 10 -AIN (in), 11 +AIN (in), 12 +C/L (in), 13 -C/L (in), 14 SHUTDOWN (in), 15 +E/A (in), 16 -E/A (in), 17 E/A OUTPUT (out), 18 ISET (out)

## UC2637NG4
designator U?
Switched Mode Controller for DC Motor Drive, 36 V Operating Supply, -25 to 85 degC, 18-pin PDIP (N), Green (RoHS & no Sb/Br); Manufacturer: Texas Instruments; PartNumber: UC2637NG4; Current-Limited: TRUE; Operating Supply Current(mA): 8.5; Operating Supply(Max)(V): 36; Operating Supply(Min)(V): 5; Peak Output Current(A): 0.4; SubFamily: Motion/Motor Control; DatasheetVersion: SLUS283; PackageVersion: revE, Dec-2002; PackageReference: N18; PackageDescription: 18-Pin Plastic Dual-In-Line Package, Row Spacing 7.62 mm, Pitch 2.54 mm; Supplier 1: Digi-Key; Supplier Part Number 1: UC2637NG4-ND; Supplier 2: Farnell; Supplier Part Number 2: 1207367; Supplier 3: Newark; Supplier Part Number 3: 54K2253; Supplier 4: Mouser; Supplier Part Number 4: 595-UC2637NG4; DC Motor Control: TRUE; Eco-Plan: Green (RoHS & no Sb/Br); Switching Control: TRUE; Mounting Technology: Through Hole; Code_JEDEC: MS-001-AC*; ComponentLink1Description: Datasheet; ComponentLink1URL: http://www.ti.com/general/docs/lit/getliterature.tsp?genericPartNumber=UC2637&fileType=pdf
footprint N18 (DIP, 18-Leads, Row Spacing 7.62mm, Pitch 2.54mm, Body 22.5x6.4mm)
pins: 1 +VTH (in), 2 CT, 3 -VTH (in), 4 AOUT (power), 5 -VS (power), 6 +VS (power), 7 BOUT (power), 8 +BIN (in), 9 -BIN (in), 10 -AIN (in), 11 +AIN (in), 12 +C/L (in), 13 -C/L (in), 14 SHUTDOWN (in), 15 +E/A (in), 16 -E/A (in), 17 E/A OUTPUT (out), 18 ISET (out)

## UC3176QP
designator U?
Full Bridge Power Amplifier, 35 V Operating Supply, 0 to 70 degC, 28-pin PLCC (FN), Green (RoHS & no Sb/Br); Manufacturer: Texas Instruments; PartNumber: UC3176QP; Current-Limited: TRUE; Operating Supply Current(mA): 18; Operating Supply(Max)(V): 35; Operating Supply(Min)(V): 3; Peak Output Current(A): 2; SubFamily: Motion/Motor Control; DatasheetVersion: SLUS285A; PackageVersion: revB, Mar-1995; PackageReference: FN28; PackageDescription: 28-Pin Plastic J-Leaded Chip Carrier, 1.27 mm Pitch; Supplier 1: Digi-Key; Supplier Part Number 1: 296-11210-5-ND; Supplier 2: Newark; Supplier Part Number 2: 23C9943; Supplier 3: Mouser; Supplier Part Number 3: 595-UC3176QP; Diff Curr Sense Amp: TRUE; Eco-Plan: Green (RoHS & no Sb/Br); Thermal Shutdown: TRUE; Mounting Technology: Surface Mount; Code_JEDEC: MS-018; ComponentLink1Description: Datasheet; ComponentLink1URL: http://www.ti.com/general/docs/lit/getliterature.tsp?genericPartNumber=UC3176&fileType=pdf
footprint FN28_N (Leaded Chip Carrier, 28-Leads, Body 11.5x11.5mm, Pitch 1.27mm, IPC Medium Density)
footprint FN28_L (Leaded Chip Carrier, 28-Leads, Body 11.5x11.5mm, Pitch 1.27mm, IPC High Density)
footprint FN28_M (Leaded Chip Carrier, 28-Leads, Body 11.5x11.5mm, Pitch 1.27mm, IPC Low Density)
pins: 1 +VIN (power), 2 B OUTPUT (power), 3 BISINK (SENSE) (in), 4 BISINK (in), 5 NC, 6 NC, 7 NC, 8 B- INPUT (in), 9 B+ INPUT (in), 10 PARK/INHIBIT (in), 11 PARKING DRIVE (oc), 12 GND (power), 13 GND (power), 14 GND (power), 15 GND (power), 16 GND (power), 17 GND (power), 18 GND (power), 19 UV1 (in), 20 UV2 (in), 21 CURRENT FEEDBACK (out), 22 A+ INPUT (in), 23 A- INPUT (in), 24 NC, 25 AISINK (in), 26 AISINK (SENSE) (in), 27 A OUTPUT (power), 28 GND (power)

## UC3176QPTR
designator U?
Full Bridge Power Amplifier, 35 V Operating Supply, 0 to 70 degC, 28-pin PLCC (FN), Green (RoHS & no Sb/Br); Manufacturer: Texas Instruments; PartNumber: UC3176QPTR; Current-Limited: TRUE; Operating Supply Current(mA): 18; Operating Supply(Max)(V): 35; Operating Supply(Min)(V): 3; Peak Output Current(A): 2; SubFamily: Motion/Motor Control; DatasheetVersion: SLUS285A; PackageVersion: revB, Mar-1995; PackageReference: FN28; PackageDescription: 28-Pin Plastic J-Leaded Chip Carrier, 1.27 mm Pitch; Supplier 1: Digi-Key; Supplier Part Number 1: 296-27504-2-ND; Supplier 2: Digi-Key; Supplier Part Number 2: 296-27504-1-ND; Supplier 3: Digi-Key; Supplier Part Number 3: 296-27504-6-ND; Supplier 4: Newark; Supplier Part Number 4: 77C3114; Supplier 5: Mouser; Supplier Part Number 5: 595-UC3176QPTR; Diff Curr Sense Amp: TRUE; Eco-Plan: Green (RoHS & no Sb/Br); Thermal Shutdown: TRUE; Mounting Technology: Surface Mount; Code_JEDEC: MS-018; ComponentLink1Description: Datasheet; ComponentLink1URL: http://www.ti.com/general/docs/lit/getliterature.tsp?genericPartNumber=UC3176&fileType=pdf
footprint FN28_N (Leaded Chip Carrier, 28-Leads, Body 11.5x11.5mm, Pitch 1.27mm, IPC Medium Density)
footprint FN28_L (Leaded Chip Carrier, 28-Leads, Body 11.5x11.5mm, Pitch 1.27mm, IPC High Density)
footprint FN28_M (Leaded Chip Carrier, 28-Leads, Body 11.5x11.5mm, Pitch 1.27mm, IPC Low Density)
pins: 1 +VIN (power), 2 B OUTPUT (power), 3 BISINK (SENSE) (in), 4 BISINK (in), 5 NC, 6 NC, 7 NC, 8 B- INPUT (in), 9 B+ INPUT (in), 10 PARK/INHIBIT (in), 11 PARKING DRIVE (oc), 12 GND (power), 13 GND (power), 14 GND (power), 15 GND (power), 16 GND (power), 17 GND (power), 18 GND (power), 19 UV1 (in), 20 UV2 (in), 21 CURRENT FEEDBACK (out), 22 A+ INPUT (in), 23 A- INPUT (in), 24 NC, 25 AISINK (in), 26 AISINK (SENSE) (in), 27 A OUTPUT (power), 28 GND (power)